# Altium footprint library SMPS PcbLib.PcbLib: 33 footprints (part 3 of 3)
Each footprint in its own frame and in the unit in brackets; x right, y up, seen from the top. Pads: shape width x height; smd on the part's side, far side on the other; paste and mask are expansions set on the pad; w line width, h text height; cw(c..) or ccw(c..) is an arc to the next point about the centre after c.
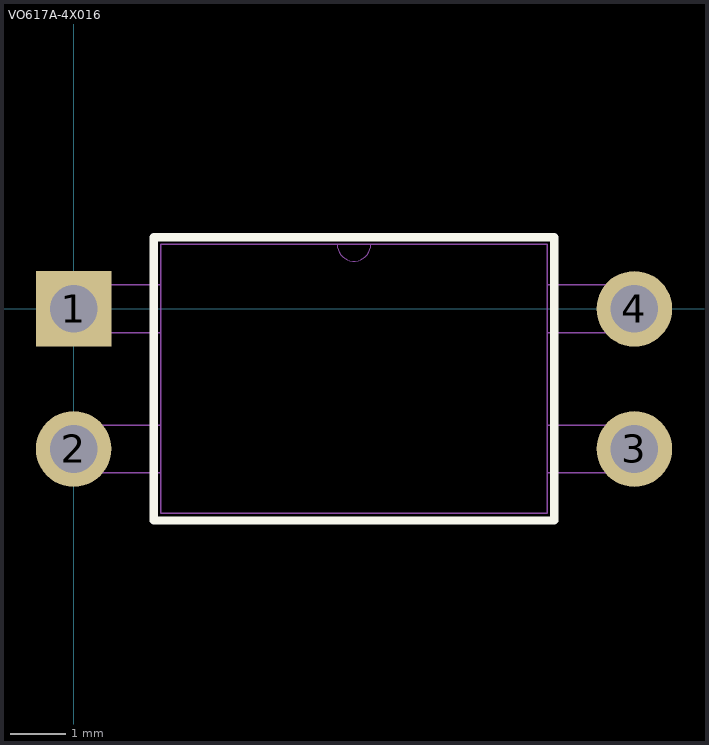
[diagram p2: the footprint, top view; thin cyan lines are the x and y axes]

## VO617A-4X016 [mil]
pads (4):
  rect 54x54 / inner round 60 / far side rect 54x54 hole 34 paste-27 mask+0: 1(0,0)
  round 54 / inner round 60 / far side round 54 hole 34 paste-27 mask+0: 2(0,-100) 3(400,-100) 4(400,0)
Top Overlay:
  lines w6: 57,-151 57,51 343,51 343,-151 57,-151
Top 3D Body:
  lines w0: 188,46 ccw(c200,46) 212,46
  lines w1: -17,-117 62,-117 62,-83 -17,-83 -17,-117 ; -17,-17 62,-17 62,17 -17,17 -17,-17 ; 62,-146 62,46 338,46 338,-146 62,-146 ; 338,-117 417,-117 417,-83 338,-83 338,-117 ; 338,-17 417,-17 417,17 338,17 338,-17
3D body "DIP-4-OPT6_VO617A_VIS.step": height 159.09, standoff -100, extent -5,-145.98 415,45.98